# EAGLE library part NVT2006PW (library UpBoard B)
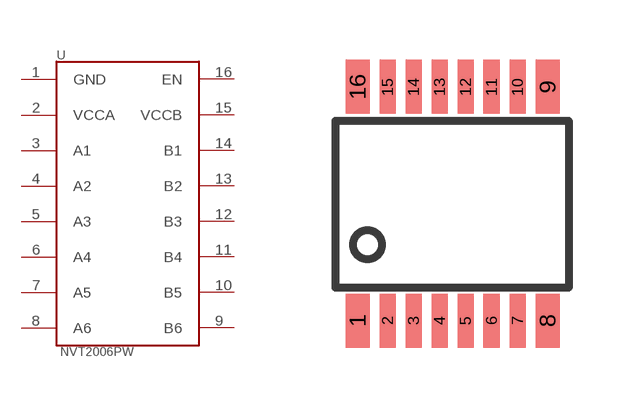
[diagram p3: symbol with the pads of NVT2006PW; footprint NVT2006PW]

Designator prefix -

## NVT2006PW  [NVT2006PW]
1  GND
2  VCCA
3  A1
4  A2
5  A3
6  A4
7  A5
8  A6
9  B6
10  B5
11  B4
12  B3
13  B2
14  B1
15  VCCB
16  EN

## Footprint NVT2006PW (pad centres in mm)
smd 0.6 x 1.35: 1 0.425,0.8; 8 5.175,0.8; 9 5.175,6.65; 16 0.425,6.65
smd 0.4 x 1.35: 2 1.175,0.8; 3 1.825,0.8; 4 2.475,0.8; 5 3.125,0.8; 6 3.775,0.8; 7 4.425,0.8; 10 4.425,6.65; 11 3.775,6.65; 12 3.125,6.65; 13 2.475,6.65; 14 1.825,6.65; 15 1.175,6.65